# EAGLE library part 6120XX21721_61201021721 (library Wurth_Connectors_WR-BHD)
WR-BHD 2.54 mm Male Angled Box Header KIND PROPERTIES: Pitch 2.54 mm Gender:Male MATERIAL PROPERTIES: Insulator Material:PBT Insulator Flammability Rating UL94 V-0 Insulator Color:Black Contact Material :Copper Alloy Contact Plating :Gold Contact Type: Stamped GENERAL INFORMATION: Operating Temperature:-40 °C up to +125 °C Compliance:RoHS Working Voltage: 250 V (AC) Withstanding Voltage:500 V (AC) Contact Resistance: 20 mΩ Insulation Resistance:1000 MΩ CERTIFICATION: UL Approval:E323964 PACKAGING PROPERTIES Packaging :Tray <https://www.we-online.de/katalog/media/o32888v209%20Family_WR-BHD_6120xx21721.jpg> Details see: https://www.we-online.de/katalog/en/em/BHD_2_54_MALE_ANGLED_BOX_HEADER_6120XX21721 Updated by Yingchun,Shan 2019-10-29 2019 (C) Würth Elektronik
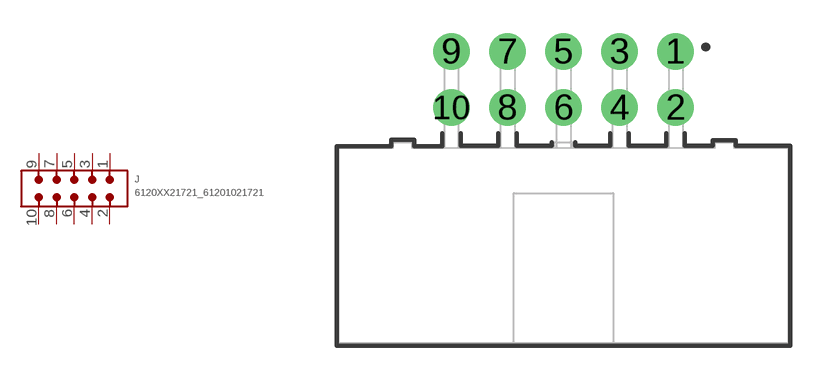
[diagram p210: symbol with the pads of 61201021721; footprint 61201021721]

Designator prefix J

## 6120XX21721_61201021721 (CONTACT-RESISTANCE: 20mOhm; DATASHEET-URL: https://www.we-online.com/redexpert/spec/61201021721?ae; GENDER: Male; IR: 3A; LENGTH: 25.44mm; MOUNT: THT; PACKAGING: Tray; PART-NUMBER: 61201021721; PINS: 10; PITCH: 2.54mm; TYPE: Angled; VALUE: 61201021721; WORKING-VOLTAGE: 250V(AC))  [61201021721]
1  1  pas
2  2  pas
3  3  pas
4  4  pas
5  5  pas
6  6  pas
7  7  pas
8  8  pas
9  9  pas
10  10  pas

## Footprint 61201021721 (pad centres in mm)
WR-BHD 2.54 mm Male Angled Box Header, 10 Pins
drill 1.1: 1 5.08,8.805; 2 5.08,6.265; 3 2.54,8.805; 4 2.54,6.265; 5 0,8.805; 6 0,6.265; 7 -2.54,8.805; 8 -2.54,6.265; 9 -5.08,8.805; 10 -5.08,6.265